# EAGLE library part ADG3304_BOTTOM (library MyAmSys)
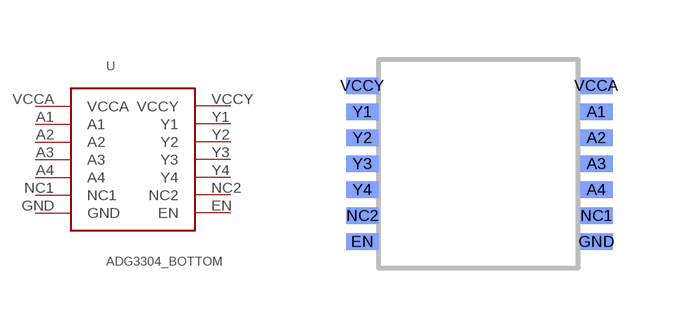
[diagram p2: symbol with the pads of ADG3304_BOTTOM; footprint ADG3304_BOTTOM]

Designator prefix -

## ADG3304_BOTTOM  [ADG3304_BOTTOM]
A1  A1
A2  A2
A3  A3
A4  A4
EN  EN
GND  GND
NC1  NC1
NC2  NC2
VCCA  VCCA
VCCY  VCCY
Y1  Y1
Y2  Y2
Y3  Y3
Y4  Y4

## Footprint ADG3304_BOTTOM (pad centres in mm)
smd 0.813 x 0.406 bottom: A1 5.85,1.3; A2 5.85,0.65; A3 5.85,0; A4 5.85,-0.65; EN 0,-1.95; GND 5.85,-1.95; NC1 5.85,-1.3; NC2 0,-1.3; VCCA 5.85,1.95; VCCY 0,1.95; Y1 0,1.3; Y2 0,0.65; Y3 0,0; Y4 0,-0.65